# Altium schematic symbol library Power_Management.SchLib: 2 symbols
Pins are listed as number, name and electrical type; pins without a type are passive.

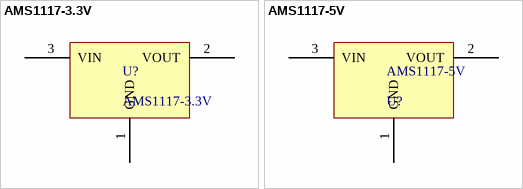
[diagram p0: symbols AMS1117-3.3V to AMS1117-5V]

## AMS1117-3.3V
designator U?
AMS1117 3.3V
pins: 1 GND, 2 VOUT, 3 VIN

## AMS1117-5V
designator AMS1117-5V, comment U?
AMS1117 3.3V
pins: 1 GND, 2 VOUT, 3 VIN